# Altium footprint library TPS54KC23RZRR.PcbLib: 1 footprints
Each footprint in its own frame and in the unit in brackets; x right, y up, seen from the top. Pads: shape width x height; smd on the part's side, far side on the other; paste and mask are expansions set on the pad; w line width, h text height; cw(c..) or ccw(c..) is an arc to the next point about the centre after c.
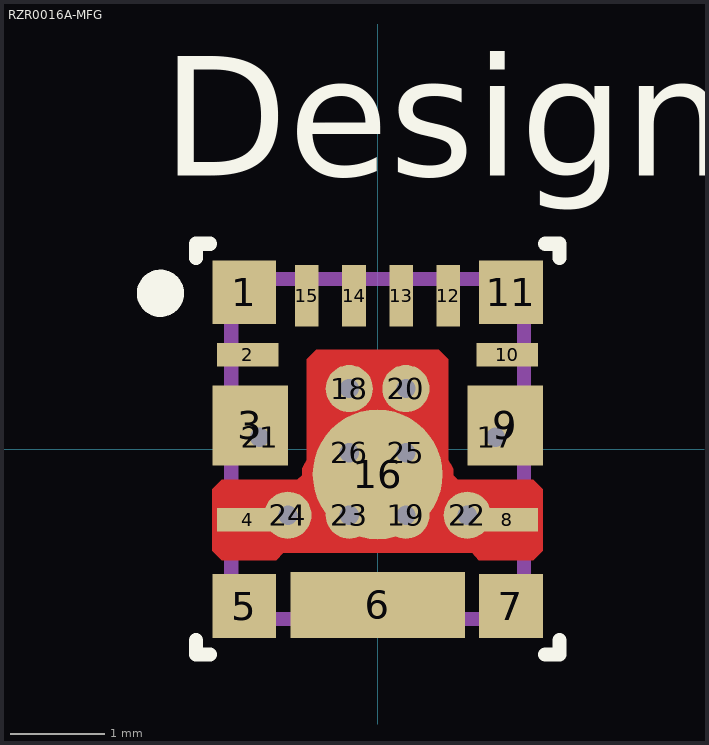
[diagram p0: the footprint, top view; thin cyan lines are the x and y axes]

## RZR0016A-MFG [mm]
pads (26):
  rect 0.675x0.675 smd paste-0.325 mask-0.33: 1(-1.412,1.663) 5(-1.412,-1.663) 7(1.412,-1.663) 11(1.412,1.663)
  rect 0.65x0.25 smd paste+0 mask-0.318: 2(-1.375,1) 10(1.375,1)
  rect 0.8x0.85 smd paste-0.412 mask-0.406: 3(-1.35,0.25) 9(1.35,0.25)
  rect 0.65x0.25 smd paste-0.312 mask-0.318: 4(-1.375,-0.75) 8(1.375,-0.75)
  rect 1.85x0.7 smd paste-0.912 mask-0.914: 6(0,-1.65)
  rect 0.25x0.65 smd paste+0 mask-0.318: 12(0.75,1.625) 13(0.25,1.625) 14(-0.25,1.625) 15(-0.75,1.625)
  round 1.375 smd paste-0.675 mask-0.673: 16(0,-0.268)
  round 0.5 / inner round 1.524 / far side round 0.5 hole 0.203 paste-0.25 mask-0.241: 17(1.25,0.125) 18(-0.3,0.641) 19(0.3,-0.7) 20(0.3,0.641) 21(-1.25,0.125) 22(0.95,-0.7) 23(-0.3,-0.7) 24(-0.95,-0.7) 25(0.3,-0.038) 26(-0.3,-0.038)
Top Layer:
  region: -1.65,-1.175 -1.75,-1.075 -1.75,-0.425 -1.65,-0.325 -0.85,-0.325 -0.8,-0.275 -0.8,-0.206 -0.775,-0.163 -0.75,-0.119 -0.75,0.95 -0.65,1.05 0.65,1.05 0.75,0.95 0.75,-0.119 0.775,-0.163 0.8,-0.206 0.8,-0.275 0.85,-0.325 1.65,-0.325 1.75,-0.425 1.75,-1.075 1.65,-1.175 1.074,-1.175 1,-1.1 -1,-1.1 -1.074,-1.175
Top Overlay:
  circle w0.25: c-2.3,1.65 r0.125
  lines w0.15: -1.925,-2.025 -1.925,-2.175 -1.775,-2.175 ; -1.925,2.025 -1.925,2.175 -1.775,2.175 ; 1.775,-2.175 1.925,-2.175 1.925,-2.025 ; 1.775,2.175 1.925,2.175 1.925,2.025
  text "Designator3" at -2.286,2.896 h1.27
Top Paste:
  drawing of 13 lines, arcs and shapes, not listed
Top Solder:
  drawing of 16 lines, arcs and shapes, not listed
Mechanical 13:
  lines w0.15: -1.55,-1.8 -1.55,1.8 1.55,1.8 1.55,-1.8 -1.55,-1.8